# Altium footprint library Connector.PcbLib: 10 footprints
Each footprint in its own frame and in the unit in brackets; x right, y up, seen from the top. Pads: shape width x height; smd on the part's side, far side on the other; paste and mask are expansions set on the pad; w line width, h text height; cw(c..) or ccw(c..) is an arc to the next point about the centre after c.
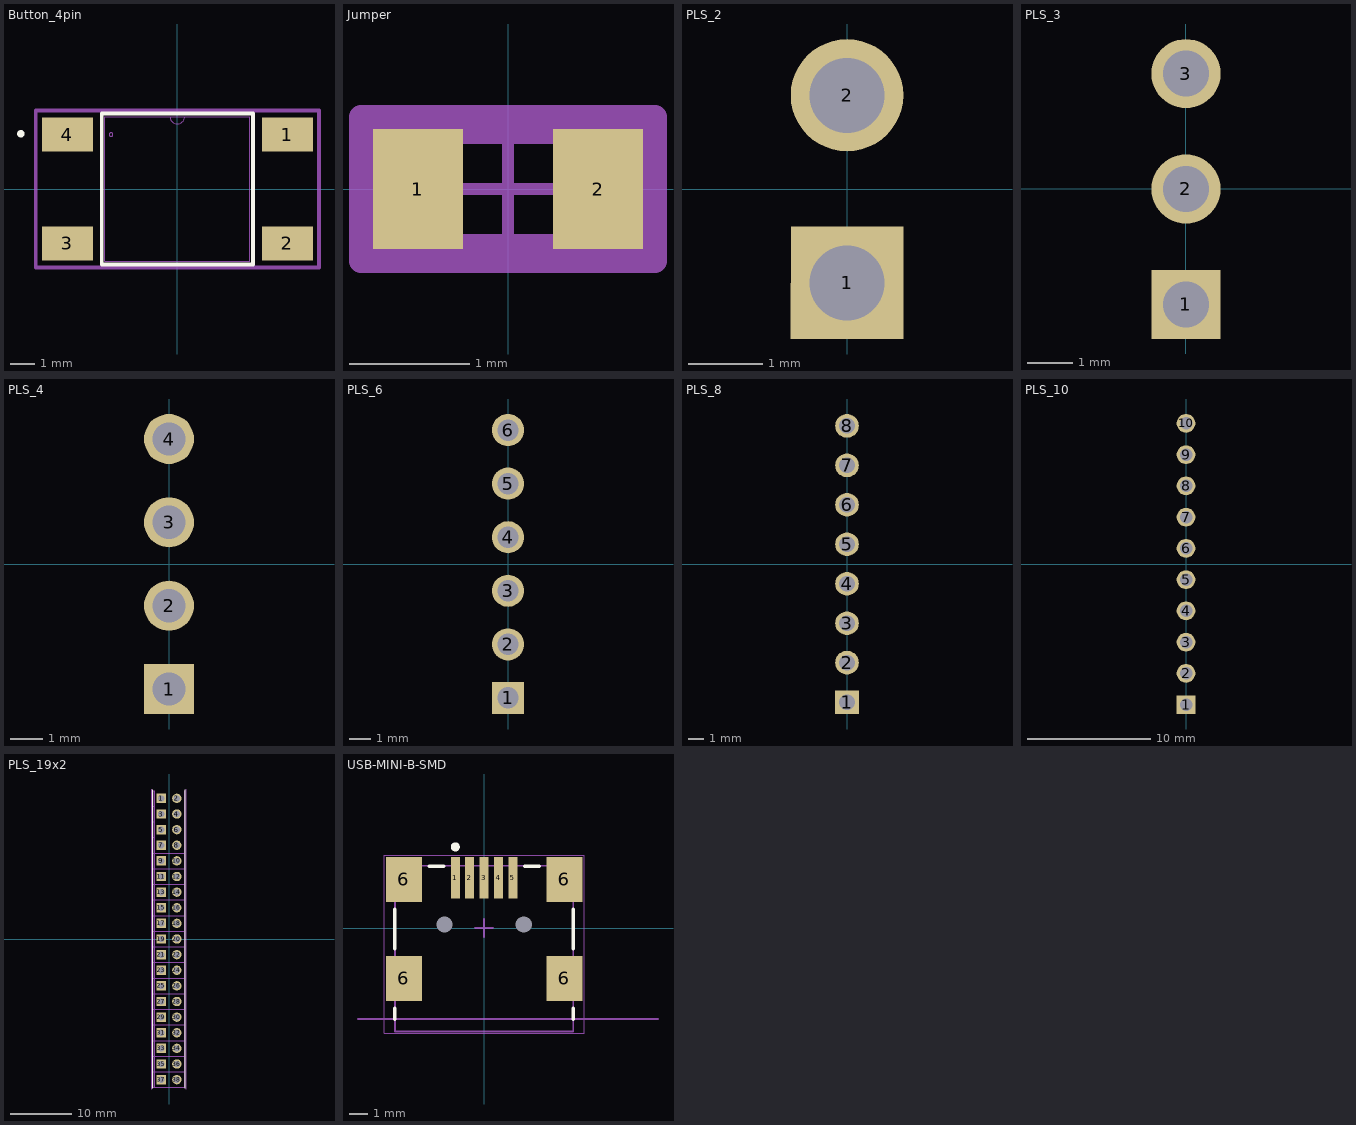
[diagram p0: the footprints below, top view; thin cyan lines are the x and y axes]

## Button_4pin [mil]
pads (4):
  rect 83x55 smd paste+0 mask+0: 1(179.13,88.58) 2(179.13,-88.58) 3(-179.13,-88.58) 4(-179.13,88.58)
Top Overlay:
  circle w6: c-255,90 r3
  lines w6: -123,-123 -123,123 123,123 123,-123 -123,-123
Mechanical 13:
  circle w1: c-108,88.58 r3
  lines w1: -12,118 ccw(c0,118) 12,118 ; -118,-118 -118,118 118,118 118,-118 -118,-118
Mechanical 15:
  lines w6: -230.63,-128 230.63,-128 230.63,128 -230.63,128 -230.63,-128
3D body "c-1571563-9-v-3d.stp": height 377.56, standoff 1.18, extent -196.85,-118.11 196.85,118.11

## Jumper [mm]
pads (2):
  rect 0.75x1 smd paste+0 mask+0: 1(-0.75,0) 2(0.75,0)
Top 3D Body:
  lines w0.2: -0.825,-0.475 -0.825,0.475 0.825,0.475 0.825,-0.475 -0.825,-0.475
Top Courtyard:
  lines w0.2: -1.225,-0.6 -1.225,0.6 1.225,0.6 1.225,-0.6 -1.225,-0.6
Top Assembly:
  lines w0.2: -1.225,-0.6 -1.225,0.6 1.225,0.6 1.225,-0.6 -1.225,-0.6
Top Component Center:
  lines w0.1: -0.5,0 0.5,0 ; 0,-0.5 0,0.5
3D body "Res_Vishay_CRCW06033M90FKEC_eec.STEP": height 0.25, standoff 0, extent -1.225,-0.6 1.225,0.6

## PLS_2 [mil]
pads (2):
  rect 60x60 hole 40 paste-99999 mask+0: 1(0,-50)
  round 60 hole 40 paste-99999 mask+0: 2(0,50)
3D body "CON2_1X2_P100UM_HDR_TYC.step": height 374.02, standoff -200, extent -50,-100 50,100

## PLS_3 [mil]
pads (3):
  rect 60x60 hole 40 paste-99999 mask+0: 1(0,-100)
  round 60 hole 40 paste-99999 mask+0: 2(0,0) 3(0,100)
3D body "CON2_1X2_P100UM_HDR_TYC.step": height 374.02, standoff -200, extent -50,-150 50,50

## PLS_4 [mil]
pads (4):
  rect 60x60 hole 40 paste-99999 mask+0: 1(0,-150)
  round 60 hole 40 paste-99999 mask+0: 2(0,-50) 3(0,50) 4(0,150)
3D body "CON2_1X2_P100UM_HDR_TYC.step": height 374.02, standoff -200, extent -50,0 50,200
3D body "CON2_1X2_P100UM_HDR_TYC.step": height 374.02, standoff -200, extent -50,-200 50,0

## PLS_6 [mil]
pads (6):
  rect 60x60 hole 40 paste-99999 mask+0: 1(0,-250)
  round 60 hole 40 paste-99999 mask+0: 2(0,-150) 3(0,-50) 4(0,50) 5(0,150) 6(0,250)
3D body "CON2_1X2_P100UM_HDR_TYC.step": height 374.02, standoff -200, extent -50,100 50,300
3D body "CON2_1X2_P100UM_HDR_TYC.step": height 374.02, standoff -200, extent -50,-100 50,100
3D body "CON2_1X2_P100UM_HDR_TYC.step": height 374.02, standoff -200, extent -50,-300 50,-100

## PLS_8 [mil]
pads (8):
  rect 60x60 hole 40 paste-99999 mask+0: 1(0,-350)
  round 60 hole 40 paste-99999 mask+0: 2(0,-250) 3(0,-150) 4(0,-50) 5(0,50) 6(0,150) 7(0,250) 8(0,350)
3D body "CON2_1X2_P100UM_HDR_TYC.step": height 374.02, standoff -200, extent -50,-400 50,-200
3D body "CON2_1X2_P100UM_HDR_TYC.step": height 374.02, standoff -200, extent -50,-200 50,0
3D body "CON2_1X2_P100UM_HDR_TYC.step": height 374.02, standoff -200, extent -50,0 50,200
3D body "CON2_1X2_P100UM_HDR_TYC.step": height 374.02, standoff -200, extent -50,200 50,400

## PLS_10 [mil]
pads (10):
  rect 60x60 hole 40 paste-99999 mask+0: 1(0,-450)
  round 60 hole 40 paste-99999 mask+0: 2(0,-350) 3(0,-250) 4(0,-150) 5(0,-50) 6(0,50) 7(0,150) 8(0,250) 9(0,350) 10(0,450)
3D body "CON2_1X2_P100UM_HDR_TYC.step": height 374.02, standoff -200, extent -50,300 50,500
3D body "CON2_1X2_P100UM_HDR_TYC.step": height 374.02, standoff -200, extent -50,100 50,300
3D body "CON2_1X2_P100UM_HDR_TYC.step": height 374.02, standoff -200, extent -50,-100 50,100
3D body "CON2_1X2_P100UM_HDR_TYC.step": height 374.02, standoff -200, extent -50,-300 50,-100
3D body "CON2_1X2_P100UM_HDR_TYC.step": height 374.02, standoff -200, extent -50,-500 50,-300

## PLS_19x2 [mil]
pads (38):
  rect 60x60 hole 40 paste-99999 mask+0: 1(-50,900) 3(-50,800) 5(-50,700) 7(-50,600) 9(-50,500) 11(-50,400) 13(-50,300) 15(-50,200) 17(-50,100) 19(-50,0) 21(-50,-100) 23(-50,-200) 25(-50,-300) 27(-50,-400) 29(-50,-500) 31(-50,-600) 33(-50,-700) 35(-50,-800) 37(-50,-900)
  round 60 hole 40 paste-99999 mask+0: 2(50,900) 4(50,800) 6(50,700) 8(50,600) 10(50,500) 12(50,400) 14(50,300) 16(50,200) 18(50,100) 20(50,0) 22(50,-100) 24(50,-200) 26(50,-300) 28(50,-400) 30(50,-500) 32(50,-600) 34(50,-700) 36(50,-800) 38(50,-900)
Top Overlay:
  lines w6: -105,-955 -105,-845 ; -105,-855 -105,-745 ; -105,-755 -105,-645 ; -105,-655 -105,-545 ; -105,-555 -105,-445 ; -105,-455 -105,-345 ; -105,-355 -105,-245 ; -105,-255 -105,-145 ; -105,-155 -105,-45 ; -105,-55 -105,55 ; -105,45 -105,155 ; -105,145 -105,255 ; -105,245 -105,355 ; -105,345 -105,455 ; -105,445 -105,555 ; -105,845 -105,955 ; 105,-955 105,-845 ; 105,-855 105,-745 ; 105,-755 105,-645 ; 105,-655 105,-545 ; 105,-555 105,-445 ; 105,-455 105,-345 ; 105,-355 105,-245 ; 105,-255 105,-145 ; 105,-155 105,-45 ; 105,-55 105,55 ; 105,45 105,155 ; 105,145 105,255 ; 105,245 105,355 ; 105,345 105,455 ; 105,445 105,555 ; 105,845 105,955 ; -105,545 -105,655 -105,545 ; -105,645 -105,755 -105,645 ; -105,745 -105,855 -105,745 ; 105,545 105,655 105,545 ; 105,645 105,755 105,645 ; 105,745 105,855 105,745
Mechanical 13:
  lines w1: 100,950 100,850 100,750 100,650 100,550 ; -100,-950 -100,-850 ; -100,-950 100,-950 100,-850 ; -100,-950 -90,-950 -90,-850 ; -100,-850 -90,-850 ; -100,-850 -100,-750 ; -100,-850 100,-850 ; -100,-850 -90,-850 ; -100,-750 -90,-750 ; -100,-750 -100,-650 ; -100,-750 100,-750 ; -100,-750 -90,-750 ; -100,-650 -90,-650 ; -100,-650 -100,-550 ; -100,-650 100,-650 ; -100,-650 -90,-650 ; -100,-550 -100,-450 ; -100,-550 100,-550 ; -100,-550 -90,-550 ; -100,-550 -90,-550 ; -100,-450 -90,-450 ; -100,-450 -100,-350 ; -100,-450 100,-450 ; -100,-450 -90,-450 ; -100,-350 -90,-350 ; -100,-350 -100,-250 ; -100,-350 100,-350 ; -100,-350 -90,-350 ; -100,-250 -90,-250 ; -100,-250 -100,-150 ; -100,-250 100,-250 ; -100,-250 -90,-250 ; -100,-150 -100,-50 ; -100,-150 100,-150 ; -100,-150 -90,-150 ; -100,-150 -90,-150 ; -100,-50 -90,-50 ; -100,-50 -100,50 ; -100,-50 100,-50 ; -100,-50 -90,-50 ; -100,50 -90,50 ; -100,50 -100,150 ; -100,50 100,50 ; -100,50 -90,50 ; -100,150 -90,150 ; -100,150 -100,250 ; -100,150 100,150 ; -100,150 -90,150 ; -100,250 -90,250 ; -100,250 -100,350 ; -100,250 100,250 ; -100,250 -90,250 ; -100,350 -90,350 ; -100,350 -100,450 ; -100,350 100,350 ; -100,350 -90,350 ; -100,450 -90,450 ; -100,450 -100,550 ; -100,450 100,450 ; -100,450 -90,450 ; -100,550 -90,550 ; -100,550 -100,650 ; -100,550 100,550 ; -100,550 -90,550 ; -100,650 -90,650 ; -100,650 -100,750 ; -100,750 -90,750 ; -100,750 -100,850 ; -100,850 -90,850 ; -100,850 -100,950 -90,950 -90,850 ; -90,-850 -90,-750 ; -90,-750 -90,-650 ; -90,-650 -90,-550 ; -90,-550 -90,-450 ; -90,-450 -90,-350 ; -90,-350 -90,-250 ; -90,-250 -90,-150 ; -90,-150 -90,-50 ; -90,-50 -90,50 ; -90,50 -90,150 ; -90,150 -90,250 ; -90,250 -90,350 ; -90,350 -90,450 ; -90,450 -90,550 ; -90,550 -90,650 ; -90,650 -90,750 ; -90,750 -90,850 ; 100,-850 100,-750 ; 100,-750 100,-650 ; 100,-650 100,-550 ; 100,-550 100,-450 ; 100,-450 100,-350 ; 100,-350 100,-250 ; 100,-250 100,-150 ; 100,-150 100,-50 ; 100,-50 100,50 ; 100,50 100,150 ; 100,150 100,250 ; 100,250 100,350 ; 100,350 100,450 ; 100,450 100,550
Mechanical 15:
  lines w6: -110,-960 -110,-840 ; -110,-860 -110,-740 ; -110,-760 -110,-640 ; -110,-660 -110,-540 ; -110,-560 -110,-440 ; -110,-460 -110,-340 ; -110,-360 -110,-240 ; -110,-260 -110,-140 ; -110,-160 -110,-40 ; -110,-60 -110,60 ; -110,40 -110,160 ; -110,140 -110,260 ; -110,240 -110,360 ; -110,340 -110,460 ; -110,440 -110,560 ; -110,840 -110,960 ; 110,-960 110,-840 ; 110,-860 110,-740 ; 110,-760 110,-640 ; 110,-660 110,-540 ; 110,-560 110,-440 ; 110,-460 110,-340 ; 110,-360 110,-240 ; 110,-260 110,-140 ; 110,-160 110,-40 ; 110,-60 110,60 ; 110,40 110,160 ; 110,140 110,260 ; 110,240 110,360 ; 110,340 110,460 ; 110,440 110,560 ; 110,840 110,960 ; -110,540 -110,660 -110,540 ; -110,640 -110,760 -110,640 ; -110,740 -110,860 -110,740 ; 110,540 110,660 110,540 ; 110,640 110,760 110,640 ; 110,740 110,860 110,740
3D body "CON2_1X2_P100UM_HDR_TYC.step": height 374.02, standoff -200, extent -100,-150 100,-50
3D body "CON2_1X2_P100UM_HDR_TYC.step": height 374.02, standoff -200, extent -100,-50 100,50
3D body "CON2_1X2_P100UM_HDR_TYC.step": height 374.02, standoff -200, extent -100,50 100,150
3D body "CON2_1X2_P100UM_HDR_TYC.step": height 374.02, standoff -200, extent -100,150 100,250
3D body "CON2_1X2_P100UM_HDR_TYC.step": height 374.02, standoff -200, extent -100,-550 100,-450
3D body "CON2_1X2_P100UM_HDR_TYC.step": height 374.02, standoff -200, extent -100,-450 100,-350
3D body "CON2_1X2_P100UM_HDR_TYC.step": height 374.02, standoff -200, extent -100,-350 100,-250
3D body "CON2_1X2_P100UM_HDR_TYC.step": height 374.02, standoff -200, extent -100,-250 100,-150
3D body "CON2_1X2_P100UM_HDR_TYC.step": height 374.02, standoff -200, extent -100,250 100,350
3D body "CON2_1X2_P100UM_HDR_TYC.step": height 374.02, standoff -200, extent -100,350 100,450
3D body "CON2_1X2_P100UM_HDR_TYC.step": height 374.02, standoff -200, extent -100,450 100,550
3D body "CON2_1X2_P100UM_HDR_TYC.step": height 374.02, standoff -200, extent -100,550 100,650
3D body "CON2_1X2_P100UM_HDR_TYC.step": height 374.02, standoff -200, extent -100,-950 100,-850
3D body "CON2_1X2_P100UM_HDR_TYC.step": height 374.02, standoff -200, extent -100,-850 100,-750
3D body "CON2_1X2_P100UM_HDR_TYC.step": height 374.02, standoff -200, extent -100,-750 100,-650
3D body "CON2_1X2_P100UM_HDR_TYC.step": height 374.02, standoff -200, extent -100,-650 100,-550
3D body "CON2_1X2_P100UM_HDR_TYC.step": height 374.02, standoff -200, extent -100,650 100,750
3D body "CON2_1X2_P100UM_HDR_TYC.step": height 374.02, standoff -200, extent -100,750 100,850
3D body "CON2_1X2_P100UM_HDR_TYC.step": height 374.02, standoff -200, extent -100,850 100,950

## USB-MINI-B-SMD [mm]
pads (11):
  rect 0.5x2.3 smd: 1(-1.6,2.8) 2(-0.8,2.8) 3(0,2.8) 4(0.8,2.8) 5(1.6,2.8)
  rect 2x2.5 smd: 6(-4.45,-2.8) 6(-4.45,2.7) 6(4.45,-2.8) 6(4.45,2.7)
  round 0.6 hole 0.9 unplated: MH1(-2.2,0.2) MH2(2.2,0.2)
Top Overlay:
  circle w0.25: c-1.6,4.502 r0.127
  lines w0.2: -4.95,-5.05 -4.95,-4.45 ; -4.95,-1.15 -4.95,1.05 ; -3.05,3.432 -2.25,3.432 ; 2.25,3.432 3.05,3.432 ; 4.95,-5.05 4.95,-4.45 ; 4.95,-1.15 4.95,1.05
Mechanical 1:
  lines w0.1: -7,-5.05 9.652,-5.05
  text "PCB EDGE" at 6.096,-4.749 h0.8
Mechanical 13:
  lines w0.1: -4.95,-5.75 -4.95,3.45 4.95,3.45 4.95,-5.75 -4.95,-5.75
Mechanical 15:
  lines w0.05: -5.55,-5.85 5.55,-5.85 5.55,4.05 -5.55,4.05 -5.55,-5.85
  lines w0.1: -0.5,0 0.5,0 ; 0,-0.5 0,0.5
3D body: height 3.9, standoff 0, extent -4.95,-5.75 4.95,3.45